# Altium footprint library diode.PCBLIB: 206 footprints (part 4 of 13)
Each footprint in its own frame and in the unit in brackets; x right, y up, seen from the top. Pads: shape width x height; smd on the part's side, far side on the other; paste and mask are expansions set on the pad; w line width, h text height; cw(c..) or ccw(c..) is an arc to the next point about the centre after c.
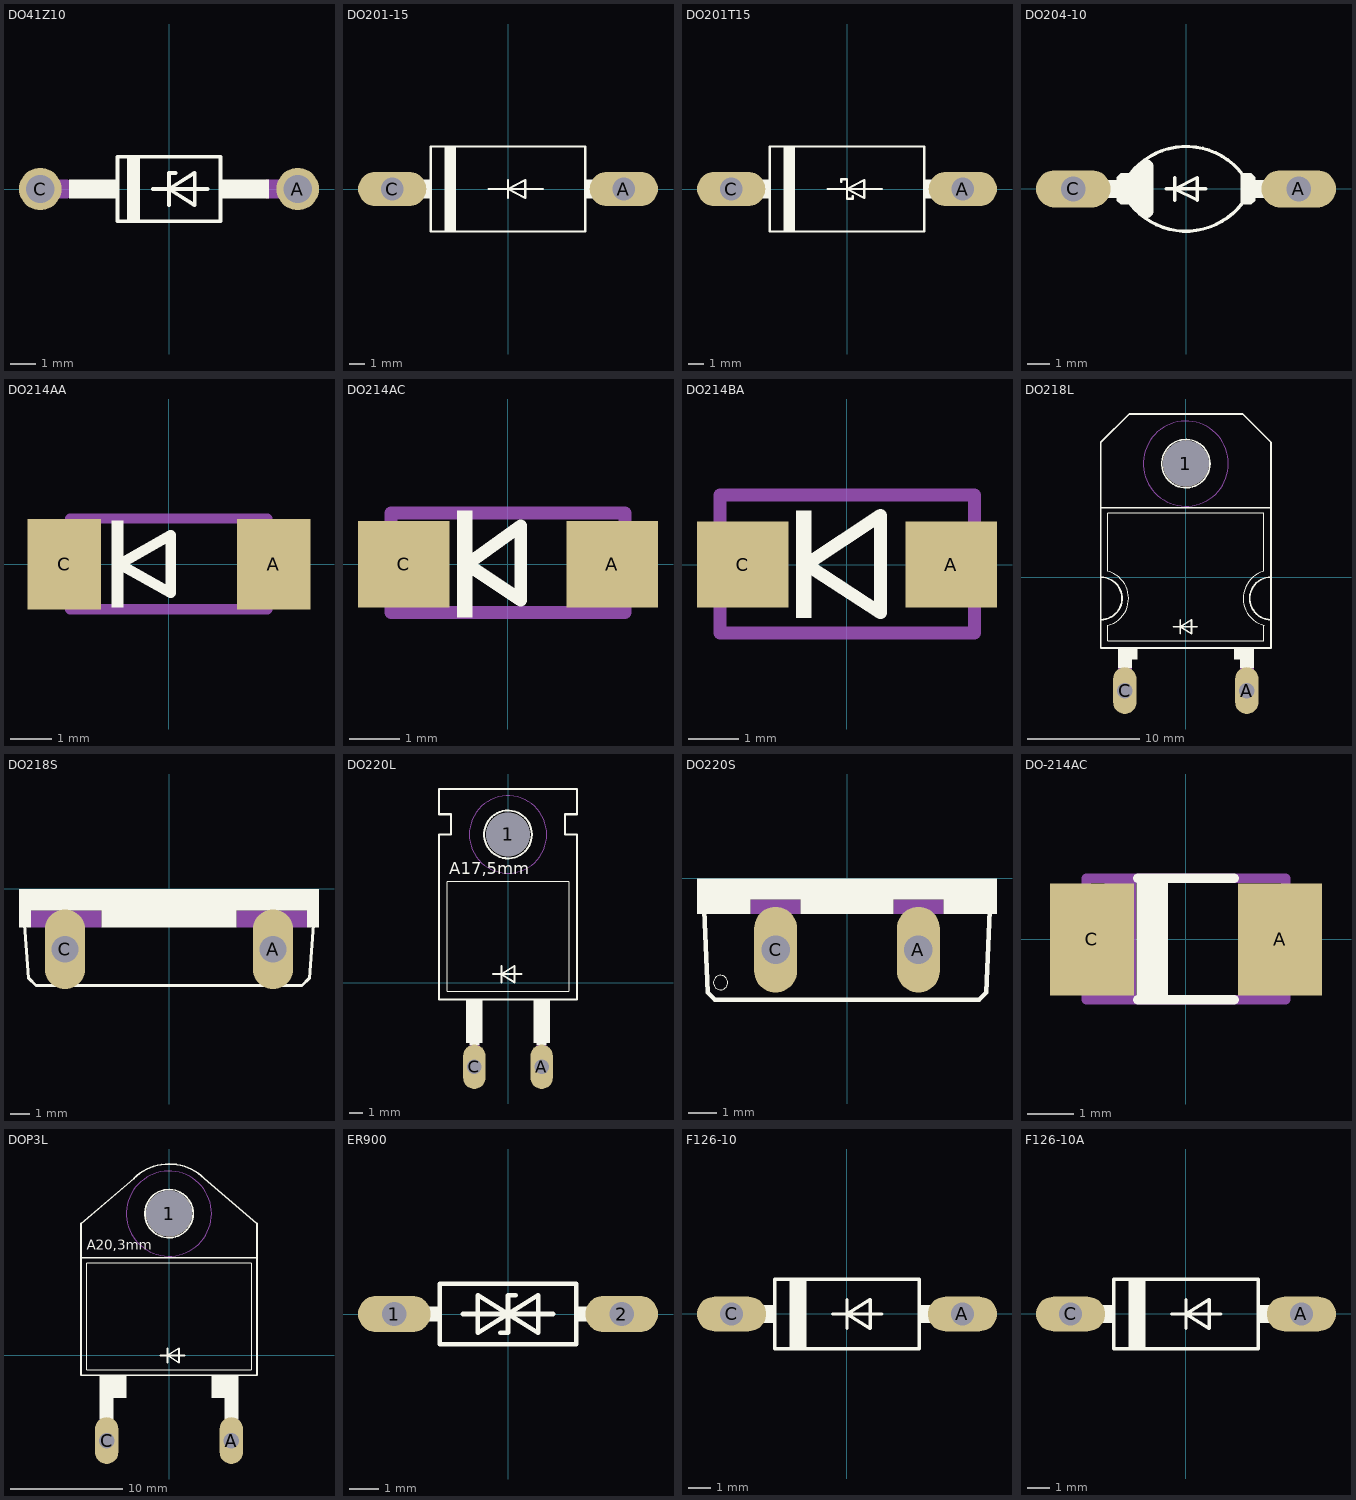
[diagram p3: the footprints below, top view; thin cyan lines are the x and y axes]

## DO41Z10 [mil]
pads (2):
  round 66 hole 44: A(200,0) C(-200,0)
Top Overlay:
  rectangle: -65,-50 -45,50
  rectangle: 80,-15 155,15
  rectangle: -155,-15 -80,15
  lines w6: -25,0 0,0 ; 0,-25 0,0 ; 10,25 0,25 0,0 ; 60,0 0,0 ; 0,0 40,-25 40,25 0,0 ; -80,-50 80,-50 80,50 -80,50 -80,-50
Mechanical 2:
  text ">NAME" at -75,65 h77.5
Mechanical 4:
  text ">VALUE" at -75,-110 h77.5
Mechanical 16:
  lines w30: -200,0 -160,0 ; 155,0 200,0

## DO201-15 [mil]
pads (2):
  oval 177x88.5 hole 59: A(300,0) C(-300,0)
Top Overlay:
  rectangle: -165,-110 -135,110
  rectangle: -235,-25 -200,25
  rectangle: 200,-25 235,25
  lines w6: -50,0 0,0 ; 0,-23 0,0 ; 0,23 0,0 ; 90,0 0,0 ; 0,0 45,23 45,-23 0,0 ; -200,-110 -200,110 200,110 200,-110 -200,-110
Mechanical 2:
  text ">NAME" at -200,125 h77.5
Mechanical 4:
  text ">VALUE" at -100,-85 h77.5
Mechanical 16:
  lines w50: -300,0 -245,0 ; 245,0 300,0

## DO201T15 [mil]
pads (2):
  oval 177x88.5 hole 59: A(300,0) C(-300,0)
Top Overlay:
  rectangle: -165,-110 -135,110
  rectangle: -235,-25 -200,25
  rectangle: 200,-25 235,25
  lines w6: -50,0 0,0 ; -15,18 -15,25 0,25 0,0 ; 15,-18 15,-25 0,-25 0,0 ; 90,0 0,0 ; 0,0 45,23 45,-23 0,0 ; -200,-110 -200,110 200,110 200,-110 -200,-110
Mechanical 2:
  text ">NAME" at -200,125 h77.5
Mechanical 4:
  text ">VALUE" at -100,-85 h77.5
Mechanical 16:
  lines w50: -300,0 -245,0 ; 245,0 300,0

## DO204-10 [mil]
pads (2):
  oval 132x66 hole 44: A(200,0) C(-200,0)
Top Overlay:
  rectangle: 120,-16 142,16
  rectangle: -142,-16 -120,16
  lines w6: -99.43,-25.76 ccw(c0,50) 100,-25 ; -35,0 -20,0 ; -20,-20 -20,0 ; -20,20 -20,0 ; 35,0 -20,0 ; 100,26 ccw(c0.38,-50.09) -100,25 ; -100,25 -100,-25 -115,-25 -120,-20 -120,20 -115,25 -100,25 ; -20,0 20,-20 20,20 -20,0 ; 100,-25 100,25 115,25 120,20 120,-20 115,-25 100,-25
  lines w24: -110,-15 -110,15 ; -80,-30 -90,-20 -90,20 -80,30 ; -70,-40 -70,40 ; 110,-15 110,15
Mechanical 2:
  text ">NAME" at -100,90 h77.5
Mechanical 4:
  text ">VALUE" at -100,-140 h77.5
Mechanical 16:
  lines w32: -200,0 -145,0 ; 145,0 200,0

## DO214AA [mil]
pads (2):
  rect 71x87 smd: A(101,0) C(-100.39,0)
Top Overlay:
  rectangle: -55.12,-41.34 -43.31,42
  lines w10: -47.24,0 2,28 2,-27.56 -47.24,0
Mechanical 2:
  text ">NAME" at -103.94,57 h77.5
Mechanical 4:
  text ">VALUE" at -103.94,-106.54 h77.5
Mechanical 16:
  rectangle: -108.27,-27.56 -98.43,26
  rectangle: 99,-27.56 109,26
  lines w10: -94.49,-43.31 95,-43.31 95,44 -94.49,44 -94.49,-43.31

## DO214AC [mil]
pads (2):
  rect 71x67 smd: A(81,0) C(-80.71,0)
Top Overlay:
  rectangle: -39.37,-41.34 -27.56,42
  lines w10: -31.5,0 10,30 10,-27.56 -31.5,0
Mechanical 2:
  text ">NAME" at -103.94,51 h77.5
Mechanical 4:
  text ">VALUE" at -103.94,-100.63 h77.5
Mechanical 16:
  rectangle: -104.33,-27.56 -94.49,26
  rectangle: 95,-27.56 105,26
  lines w10: -90.55,-37.4 91,-37.4 91,40 -90.55,40 -90.55,-37.4

## DO214BA [mil]
pads (2):
  rect 71x67 smd: A(81,0) C(-80.71,0)
Top Overlay:
  rectangle: -39.37,-41.34 -27.56,42
  lines w10: -31.5,0 26,38 26,-37.4 -31.5,0
Mechanical 2:
  text ">NAME" at -103.94,69 h77.5
Mechanical 4:
  text ">VALUE" at -103.94,-120.31 h77.5
Mechanical 16:
  rectangle: -112.2,-27.56 -102.36,26
  rectangle: 103,-27.56 113,26
  lines w10: -98.43,-53.15 99,-53.15 99,54 -98.43,54 -98.43,-53.15

## DO218L [mil]
pads (3):
  round 162 hole 162: 1(0,400)
  oval 82.5x165 hole 55: A(215,-400) C(-215,-400)
Top Overlay:
  circle w6: c0,400 r85
  rectangle: -240,-290 -170,-250
  rectangle: 170,-290 240,-250
  rectangle: -240,-320 -190,-250
  rectangle: 190,-320 240,-250
  lines w2: 274,20 ccw(c300.69,-74.73) 276,-169.99 ; 275,-170 275,-225 -275,-225 -275,-170 ccw(c-300,-75) -275,20 -275,225 275,225 275,20
  lines w6: -45,-175 -20,-175 ; -20,-200 -20,-175 ; -20,-150 -20,-175 ; 40,-175 -20,-175 ; -300,-150 -300,-250 300,-250 300,-150 ; -300,-150 -300,0 ; -300,-150 ccw(c-300,-75) -300,0 ; -300,0 -300,245 ; -300,245 300,245 ; -300,245 -300,475 -200,575 200,575 300,475 300,245 ; -20,-175 20,-200 20,-150 -20,-175 ; 300,-150 300,0 ; 300,-150 cw(c300,-75) 300,0 ; 300,0 300,245
Mechanical 2:
  text ">NAME" at -310,-250 h108.5
Mechanical 4:
  text ">VALUE" at -200,0 h108.5
Mechanical 9:
  circle w0: c0,400 r150
Mechanical 10:
  circle w0: c0,400 r150
Mechanical 16:
  rectangle: -240,-400 -190,-320
  rectangle: 190,-400 240,-320

## DO218S [mil]
pads (2):
  oval 82.5x165 hole 55: A(215,-125) C(-215,-125)
Top Overlay:
  rectangle: -310,-45 310,0
  rectangle: -310,-80 -285,-45
  rectangle: 285,-80 310,-45
  rectangle: -140,-80 140,-45
  lines w6: -300,-60 -290,-185 -275,-200 275,-200 290,-185 300,-60
Mechanical 2:
  text ">NAME" at -300,-270 h77.5
Mechanical 4:
  text ">VALUE" at -50,-270 h77.5
Mechanical 16:
  rectangle: 140,-80 285,-45
  rectangle: -285,-80 -140,-45

## DO220L [mil]
pads (3):
  round 130 hole 130: 1(0,440)
  oval 66x132 hole 44: A(100,-250) C(-100,-250)
Top Overlay:
  circle w6: c0,440 r71
  rectangle: -125,-180 -75,-50
  rectangle: 75,-180 125,-50
  rectangle: 85,-185 115,-180
  rectangle: -115,-185 -85,-180
  lines w2: -180,-25 180,-25 180,300 -180,300 -180,-25
  lines w6: -45,25 -20,25 ; -20,0 -20,25 ; -20,50 -20,25 ; 40,25 -20,25 ; -20,25 20,0 20,50 -20,25 ; -205,-50 205,-50 205,440 170,440 170,500 205,500 205,575 -205,575 -205,500 -170,500 -170,440 -205,440 -205,-50
  text "A17,5mm" at -175,310 h60.45
Mechanical 2:
  text ">NAME" at -215,-50 h108.5
Mechanical 4:
  text ">VALUE" at -155,100 h108.5
Mechanical 9:
  circle w0: c0,440 r115
Mechanical 10:
  circle w0: c0,440 r115
Mechanical 16:
  rectangle: 85,-250 115,-185
  rectangle: -115,-250 -85,-185

## DO220S [mil]
pads (2):
  oval 60x120 hole 40: A(100,-100) C(-100,-100)
Top Overlay:
  circle w0: c-177,-146 r10
  rectangle: -210,-30 210,0
  rectangle: -210,-50 -135,-30
  rectangle: 135,-50 210,-30
  rectangle: -65,-50 65,-30
  lines w6: -200,-45 -195,-160 -185,-170 185,-170 195,-160 200,-45
Mechanical 2:
  text ">NAME" at -180,-238 h77.5
Mechanical 4:
  text ">VALUE" at -180,-300 h77.5
Mechanical 16:
  rectangle: -135,-50 -65,-30
  rectangle: 65,-50 135,-30

## DO-214AC [mil]
pads (2):
  rect 71x95 smd: A(80,0) C(-79.72,0)
Top Overlay:
  rectangle: -41.93,-48.23 -15.35,49
  lines w8: -40.75,-51.18 41,-51.18 ; -40.75,52 41,52
Mechanical 2:
  text ">NAME" at -100,75 h77.5
Mechanical 4:
  text ">VALUE" at -100,-125 h77.5
Mechanical 16:
  rectangle: -111.22,-43.31 -85.63,44
  region: 112,44 86,44 86,-43.31 112,-43.31
  rectangle: -68.9,-48.23 -42.32,49
  lines w8: -84.65,-51.18 85,-51.18 85,52 -84.65,52 -84.65,-51.18

## DOP3L [mil]
pads (3):
  round 162 hole 162: 1(0,500)
  oval 82.5x165 hole 55: A(220,-300) C(-220,-300)
Top Overlay:
  circle w6: c0,500 r85
  rectangle: -245,-150 -150,-70
  rectangle: 150,-150 245,-70
  rectangle: -245,-225 -195,-150
  rectangle: 195,-225 245,-150
  lines w2: -290,-50 290,-50 290,325 -290,325 -290,-50
  lines w6: -123.74,624 cw(c-0.31,500.13) 0,675 cw(c0.44,499.82) 124,624 ; -123,624 -310,465 -310,345 ; -30,0 -5,0 ; -5,-25 -5,0 ; -5,25 -5,0 ; 55,0 -5,0 ; 123,625 310,465 310,345 ; -310,345 -310,-70 310,-70 310,345 ; -310,345 310,345 ; -5,0 35,-25 35,25 -5,0
  text "A20,3mm" at -290,360 h60.45
Mechanical 2:
  text ">NAME" at -320,-70 h108.5
Mechanical 4:
  text ">VALUE" at -200,100 h108.5
Mechanical 9:
  circle w0: c0,500 r150
Mechanical 10:
  circle w0: c0,500 r150
Mechanical 16:
  rectangle: -245,-300 -195,-225
  rectangle: 195,-300 245,-225

## ER900 [mil]
pads (2):
  oval 96x48 hole 32: 1(-150,0) 2(150,0)
Top Overlay:
  rectangle: 90,-10 115,10
  rectangle: -115,-10 -90,10
  lines w6: -60,0 0,0 ; -10,-25 0,-25 0,0 ; 10,25 0,25 0,0 ; 60,0 0,0 ; 0,0 40,-25 40,25 0,0 ; 0,0 -40,25 -40,-25 0,0 ; -90,-40 90,-40 90,40 -90,40 -90,-40
Mechanical 2:
  text ">NAME" at -90,55 h77.5
Mechanical 4:
  text ">VALUE" at -90,-105 h77.5
Mechanical 16:
  lines w20: -150,0 -115,0 ; 115,0 150,0

## F126-10 [mil]
pads (2):
  oval 120x60 hole 40: A(200,0) C(-200,0)
Top Overlay:
  rectangle: -100,-60 -70,60
  rectangle: 125,-16 147,16
  rectangle: -147,-16 -125,16
  lines w6: -25,0 0,0 ; 0,-25 0,0 ; 0,25 0,0 ; 60,0 0,0 ; 0,0 40,-25 40,25 0,0 ; -125,-60 125,-60 125,60 -125,60 -125,-60
Mechanical 2:
  text ">NAME" at -125,70 h77.5
Mechanical 4:
  text ">VALUE" at -125,-120 h77.5
Mechanical 16:
  lines w32: -200,0 -150,0 ; 150,0 200,0

## F126-10A [mil]
pads (2):
  oval 120x60 hole 40: A(200,0) C(-200,0)
Top Overlay:
  rectangle: -100,-60 -70,60
  rectangle: 125,-16 147,16
  rectangle: -147,-16 -125,16
  lines w6: -25,0 0,0 ; 0,-25 0,0 ; 0,25 0,0 ; 60,0 0,0 ; 0,0 40,-25 40,25 0,0 ; -125,-60 125,-60 125,60 -125,60 -125,-60
Mechanical 2:
  text ">NAME" at -125,70 h77.5
Mechanical 4:
  text ">VALUE" at -125,-120 h77.5
Mechanical 16:
  lines w32: -200,0 -150,0 ; 150,0 200,0